# Altium integrated library PowerManagerment_001.IntLib: 10 symbols
Pins are listed as number, name and electrical type; pins without a type are passive.

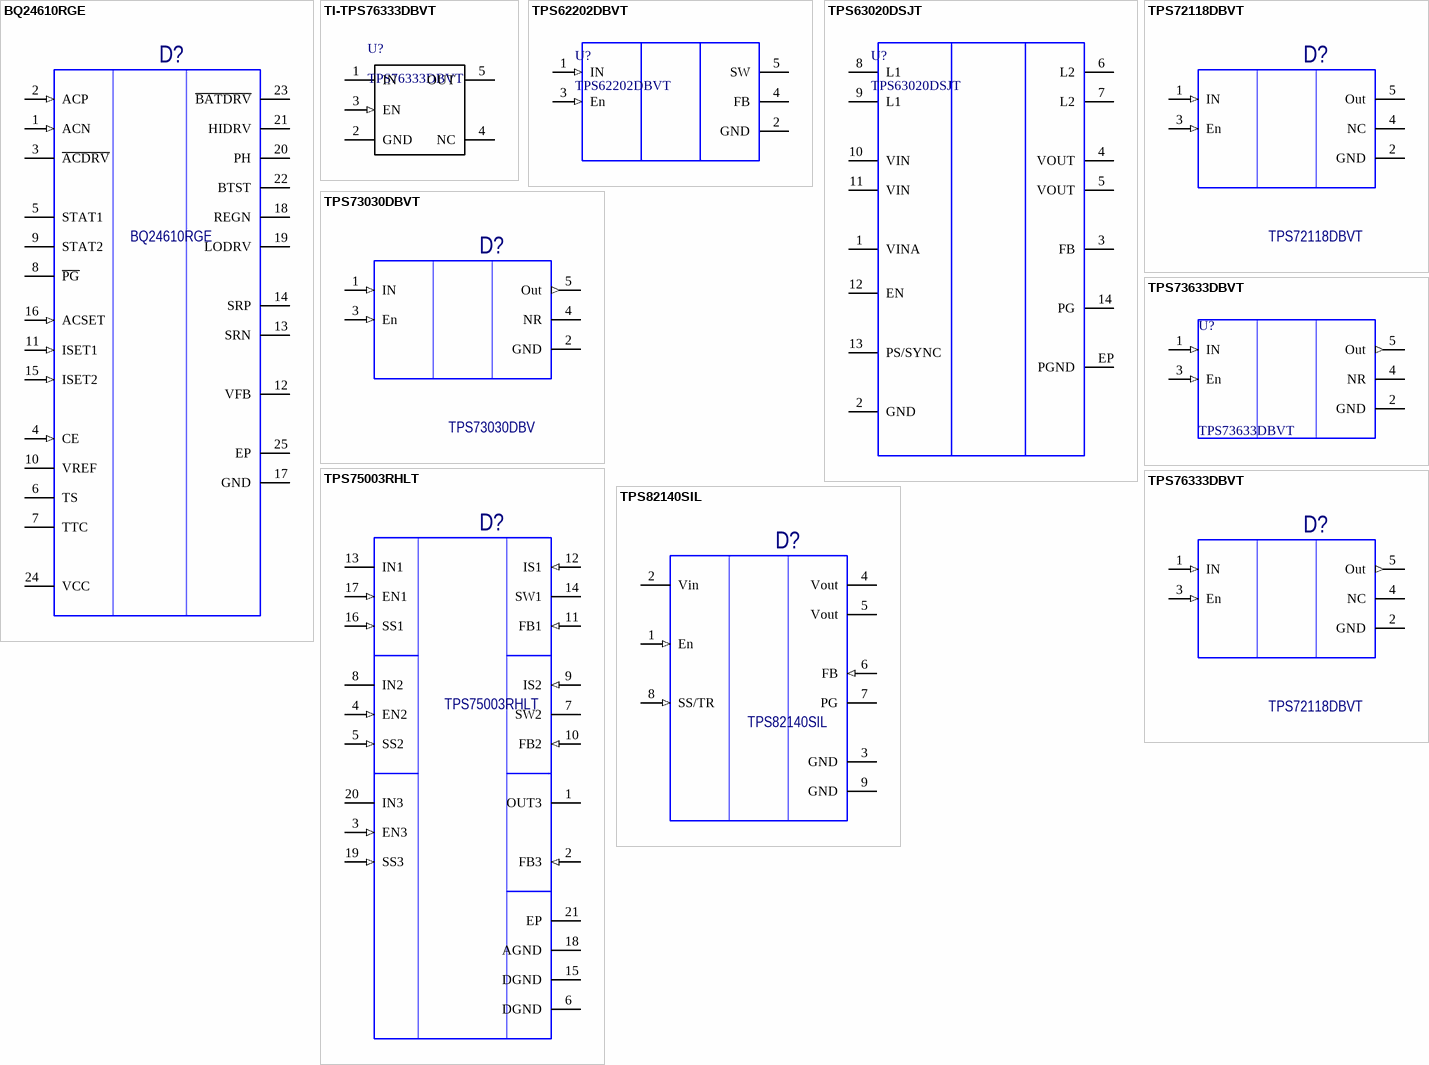
[diagram p0: symbols BQ24610RGE to TPS82140SIL]

## BQ24610RGE
designator D?
BQ24610RGE - Stand-Alone Synchronous Switch-Mode Li-Ion or Li-Polymer Battery Charger with System  Power Selector and Low Iq; Vender: Texas Instruments; ВП Описание: Микросхема_BQ24610RGE; Наименование: Микросхема; Part Number: BQ24610RGE; ComponentLink1Description: DataSheet; ComponentLink1URL: d:\Projects\Altium_Components_Lib\Component Data Base\Supervisor\TPS386596.pdf; Manufacturer: Texas Instruments; StandartDoc: Texas Instruments; Value: BQ24610RGE; Family: Chip; Manufacturer P/N: BQ24610RGE; Part: BQ24610RGE
footprint RGE24-2450X2450TP (QFN, 24-Leads, Body 4x4mm, Pitch 0.5mm, Thermal Pad 2.45x2.45mm, TI Recommended)
pins: 1 ACN (in), 2 ACP (in), 3 ~{ACDRV}, 4 CE (in), 5 STAT1, 6 TS, 7 TTC, 8 ~{PG}, 9 STAT2, 10 VREF, 11 ISET1 (in), 12 VFB, 13 SRN, 14 SRP, 15 ISET2 (in), 16 ACSET (in), 17 GND, 18 REGN, 19 LODRV, 20 PH, 21 HIDRV, 22 BTST, 23 ~{BATDRV}, 24 VCC, 25 EP

## TI-TPS76333DBVT
designator U?, comment TPS76333DBVT
Single Output LDO, 150mA, Fixed 3.3V output, 2.7 to 10V Input, with low IQ, 5-pin SOT-23(DBV), -40 to 125 degC; Manufacturer: Texas Instruments; ComponentLink1Description: Manufacturer; ComponentLink1URL: http://www.ti.com; ComponentLink2Description: Datasheet; ComponentLink2URL: http://www.mouser.com/ds/2/405/tps763-706592.pdf; Part: TPS76333DBVT; Manufacturer P/N: TPS76333DBVT; Family: Chip
footprint SOT23_MF05A_L (SOT23, 5-Leads, Body 2.9x1.6mm, Pitch 0.95mm, Lead Span 2.8mm, IPC High Density)
footprint SOT23_MF05A_M (SOT23, 5-Leads, Body 2.9x1.6mm, Pitch 0.95mm, Lead Span 2.8mm, IPC Low Density)
footprint SOT23_MF05A_N (SOT23, 5-Leads, Body 2.9x1.6mm, Pitch 0.95mm, Lead Span 2.8mm, IPC Medium Density)
pins: 1 IN (power) "Input supply voltage", 2 GND (power) "Ground", 3 EN (in) "Enable input", 4 NC "No connected", 5 OUT (power) "Regulated output voltage"

## TPS62202DBVT
designator U?
High-Efficiency Step-Down DC-DC converter; Manufacturer: Texas Instruments; ComponentLink1Description: Manufacturer; ComponentLink1URL: http://www.ti.com; ComponentLink2Description: Datasheet; Manufacturer P/N: TPS62202DBVT; Part: TPS62202DBVT; Family: Chip
footprint SOT23_MF05A_L (SOT23, 5-Leads, Body 2.9x1.6mm, Pitch 0.95mm, Lead Span 2.8mm, IPC High Density)
footprint SOT23_MF05A_M (SOT23, 5-Leads, Body 2.9x1.6mm, Pitch 0.95mm, Lead Span 2.8mm, IPC Low Density)
footprint SOT23_MF05A_N (SOT23, 5-Leads, Body 2.9x1.6mm, Pitch 0.95mm, Lead Span 2.8mm, IPC Medium Density)
pins: 1 IN (in), 2 GND, 3 En (in), 4 FB, 5 SW

## TPS63020DSJT
designator U?
Ultralow quiescent current 250ma low dropout voltage regulator; Manufacturer: Texas Instruments; ComponentLink1Description: *; ComponentLink1URL: *; ComponentLink2Description: *; ComponentLink2URL: *; Family: Chips; Manufacturer p/n: TPS63020DSJT; Part: TPS63020DSJT
footprint R-PVSON-N14
pins: 1 VINA (power) "Regulator ground", 2 GND (power) "Regulator ground", 3 FB (hiz) "PG output", 4 VOUT (power) "Regulated output voltage", 5 VOUT (power) "Regulated output voltage", 6 L2 (hiz) "PG output", 7 L2 (hiz) "PG output", 8 L1 (hiz) "PG output", 9 L1 (hiz) "PG output", 10 VIN (power) "Input voltage", 11 VIN (power) "Input voltage", 12 EN (power) "Regulator ground", 13 PS/SYNC (power) "Regulator ground", 14 PG (power) "Regulator ground", EP PGND "No connect"

## TPS72118DBVT
designator D?
TPS72118DBVT - LOW INPUT VOLTAGE, CAP FREE 150-mA LOW-DROPOUT LINEAR REGULATORS; Vender: Texas Instruments; ВП Описание: Микросхема_TPS72118DBVT; Наименование: Микросхема; Part Number: TPS72118DBVT; ComponentLink1Description: DataSheet; Manufacturer: Texas Instruments; StandartDoc: Texas Instruments; Value: TPS72118DBVT; Family: Chip; Manufacturer P/N: TPS72118DBVT; Part: TPS72118DBVT
footprint SOT23_MF05A_L (SOT23, 5-Leads, Body 2.9x1.6mm, Pitch 0.95mm, Lead Span 2.8mm, IPC High Density)
footprint SOT23_MF05A_M (SOT23, 5-Leads, Body 2.9x1.6mm, Pitch 0.95mm, Lead Span 2.8mm, IPC Low Density)
footprint SOT23_MF05A_N (SOT23, 5-Leads, Body 2.9x1.6mm, Pitch 0.95mm, Lead Span 2.8mm, IPC Medium Density)
pins: 1 IN (in), 2 GND, 3 En (in), 4 NC, 5 Out

## TPS73030DBVT
designator D?, comment TPS73030DBV
TPS73030 - Low-Noise, High PSRR, RF, 200 mA Low-Dropout Linear Regulator; Vender: Texas Instruments; ВП Описание: Микросхема_TPS73030DBV; Наименование: Микросхема; Part Number: TPS73030DBV; ComponentLink1Description: DataSheet; Manufacturer: Texas Instruments; StandartDoc: Texas Instruments; Value: TPS73030DBV; Family: Chip; Manufacturer P/N: TPS73030DBV; Part: TPS73030DBV
footprint SOT23_MF05A_L (SOT23, 5-Leads, Body 2.9x1.6mm, Pitch 0.95mm, Lead Span 2.8mm, IPC High Density)
footprint SOT23_MF05A_M (SOT23, 5-Leads, Body 2.9x1.6mm, Pitch 0.95mm, Lead Span 2.8mm, IPC Low Density)
footprint SOT23_MF05A_N (SOT23, 5-Leads, Body 2.9x1.6mm, Pitch 0.95mm, Lead Span 2.8mm, IPC Medium Density)
pins: 1 IN (in), 2 GND, 3 En (in), 4 NR, 5 Out (out)

## TPS73633DBVT
designator U?
Single Output Low Noise LDO, 400 mA, Fixed 3.3 V Output, 1.7 to 5.5 V Input, with Reverse Current Protection, 5-pin SOT-23 (DBV), -40 to 85 degC, Green (RoHS & no Sb/Br); Manufacturer: Texas Instruments; ВП Описание: ViewName=Physical View|ViewSide=eTopView|Rotation=eRotate0|Zoom=1|Width=19685039|Height=19685039|KeepAspectRatio=False|MainModel=False|AssociatedPartUniqueId=|ViewType=ePhysicalView; ComponentLink1Description: Manufacturer; ComponentLink1URL: http://www.ti.com; ComponentLink2Description: Datasheet; ComponentLink2URL: http://www.ti.com/lit/ds/symlink/tps736.pdf; Manufacturer P/N: TPS73633DBVT; Part: TPS73633DBVT; Family: Chip; Value: TPS73633DBVT; PartNumber: TPS73633DBVT; Наименование: ViewName=Physical View|ViewSide=eTopView|Rotation=eRotate0|Zoom=1|Width=19685039|Height=19685039|KeepAspectRatio=False|MainModel=False|AssociatedPartUniqueId=|ViewType=ePhysicalView; Описание: ViewName=Physical View|ViewSide=eTopView|Rotation=eRotate0|Zoom=1|Width=19685039|Height=19685039|KeepAspectRatio=False|MainModel=False|AssociatedPartUniqueId=|ViewType=ePhysicalView
footprint SOT23_MF05A_L (SOT23, 5-Leads, Body 2.9x1.6mm, Pitch 0.95mm, Lead Span 2.8mm, IPC High Density)
footprint SOT23_MF05A_M (SOT23, 5-Leads, Body 2.9x1.6mm, Pitch 0.95mm, Lead Span 2.8mm, IPC Low Density)
footprint SOT23_MF05A_N (SOT23, 5-Leads, Body 2.9x1.6mm, Pitch 0.95mm, Lead Span 2.8mm, IPC Medium Density)
pins: 1 IN (in), 2 GND, 3 En (in), 4 NR, 5 Out (out)

## TPS75003RHLT
designator D?
TPS75003RHLT - Stand-Alone Synchronous Switch-Mode Li-Ion or Li-Polymer Battery Charger with System  Power Selector and Low Iq; Vender: Texas Instruments; ВП Описание: Микросхема_TPS75003RHLT; Наименование: Микросхема; Part Number: TPS75003RHLT; ComponentLink1Description: DataSheet; Manufacturer: Texas Instruments; StandartDoc: Texas Instruments; Family: Chip; Value: TPS75003RHLT; ComponentLink2Description: Manufacturer; ComponentLink2URL: *; ComponentLink3Description: DatasheetLocal; ComponentLink3URL: *; Manufacturer P/N: TPS75003RHLT; Part: TPS75003RHLT
footprint RHL20-3050X2050TP (QFN, 20-Leads, Body 4.5x3.5mm, Pitch 0.5mm, Thermal Pad 3.05x2.05mm, TI Recommended)
pins: 1 OUT3, 2 FB3 (in), 3 EN3 (in), 4 EN2 (in), 5 SS2 (in), 6 DGND, 7 SW2, 8 IN2, 9 IS2 (in), 10 FB2 (in), 11 FB1 (in), 12 IS1 (in), 13 IN1, 14 SW1, 15 DGND, 16 SS1 (in), 17 EN1 (in), 18 AGND, 19 SS3 (in), 20 IN3, 21 EP

## TPS76333DBVT
designator D?, comment TPS72118DBVT
TPS76333DBVT - Single Output LDO, 150mA, Fixed 3.3V output, 2.7 to 10V Input, with low IQ, 5-pin SOT-23(DBV), -40 to 125 degC; Vender: Texas Instruments; ВП Описание: Микросхема_TPS76333DBVT; Наименование: Микросхема; Part Number: TPS76333DBVT; ComponentLink1Description: DataSheet; Manufacturer: Texas Instruments; StandartDoc: Texas Instruments; Value: TPS72118DBVT; Family: Chip; Manufacturer P/N: TPS76333DBVT; Part: TPS76333DBVT
footprint SOT23_MF05A_L (SOT23, 5-Leads, Body 2.9x1.6mm, Pitch 0.95mm, Lead Span 2.8mm, IPC High Density)
footprint SOT23_MF05A_M (SOT23, 5-Leads, Body 2.9x1.6mm, Pitch 0.95mm, Lead Span 2.8mm, IPC Low Density)
footprint SOT23_MF05A_N (SOT23, 5-Leads, Body 2.9x1.6mm, Pitch 0.95mm, Lead Span 2.8mm, IPC Medium Density)
pins: 1 IN (in), 2 GND, 3 En (in), 4 NC, 5 Out (out)

## TPS82140SIL
designator D?
TPS82140SIL - 17-V Input 2-A Step-Down Converter MicroSiP™ Module with Integrated / Inductor; Vender: Texas Instruments; ВП Описание: Микросхема_TPS82140SIL; Наименование: Микросхема; Part Number: TPS82140SIL; ComponentLink1Description: DataSheet; Manufacturer: Texas Instruments; StandartDoc: Texas Instruments; Value: TPS82140SIL; Family: Chip; Manufacturer P/N: TPS82140SIL; Part: TPS82140SIL
footprint uSIP-8
pins: 1 En (in), 2 Vin, 3 GND, 4 Vout, 5 Vout, 6 FB (in), 7 PG, 8 SS/TR (in), 9 GND